# Altium footprint library TLE7181EMXUMA1.PcbLib: 3 footprints
Each footprint in its own frame and in the unit in brackets; x right, y up, seen from the top. Pads: shape width x height; smd on the part's side, far side on the other; paste and mask are expansions set on the pad; w line width, h text height; cw(c..) or ccw(c..) is an arc to the next point about the centre after c.
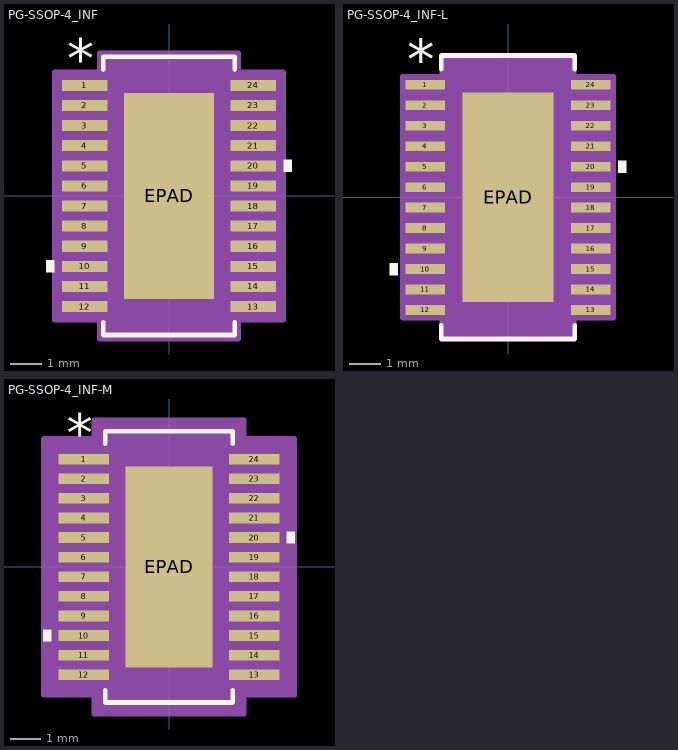
[diagram p0: the footprints below, top view; thin cyan lines are the x and y axes]

## PG-SSOP-4_INF [mil]
pads (25):
  rect 57.5x14 smd paste+0 mask+0: 1(-107.25,140.75) 2(-107.25,115.16) 3(-107.25,89.57) 4(-107.25,63.98) 5(-107.25,38.39) 6(-107.25,12.8) 7(-107.25,-12.8) 8(-107.25,-38.39) 9(-107.25,-63.98) 10(-107.25,-89.57) 11(-107.25,-115.16) 12(-107.25,-140.75) 13(107.25,-140.75) 14(107.25,-115.16) 15(107.25,-89.57) 16(107.25,-63.98) 17(107.25,-38.39) 18(107.25,-12.8) 19(107.25,12.8) 20(107.25,38.39) 21(107.25,63.98) 22(107.25,89.57) 23(107.25,115.16) 24(107.25,140.75)
  rect 114x262 smd paste-130.5 mask+0: EPAD(0,0)
Top Overlay:
  region: -146,-82.07 -156,-82.07 -156,-97.07 -146,-97.07
  region: 146,45.89 156,45.89 156,30.89 146,30.89
  lines w6: -83.5,-160.85 -83.5,-177 83.5,-177 83.5,-160.85 ; -83.5,160.85 -83.5,177 83.5,177 83.5,160.85
  text "*" at -129.75,149.75 h50
  text ".Designator" at -137.5,-25 h50
Top Paste:
  region: -3.94,127.06 -53.06,127.06 -53.06,82.54 -3.94,82.54
  region: -3.94,74.66 -53.06,74.66 -53.06,30.14 -3.94,30.14
  region: -3.94,22.26 -53.06,22.26 -53.06,-22.26 -3.94,-22.26
  region: -3.94,-30.14 -53.06,-30.14 -53.06,-74.66 -3.94,-74.66
  region: -3.94,-82.54 -53.06,-82.54 -53.06,-127.06 -3.94,-127.06
  region: 53.06,127.06 3.94,127.06 3.94,82.54 53.06,82.54
  region: 53.06,74.66 3.94,74.66 3.94,30.14 53.06,30.14
  region: 53.06,22.26 3.94,22.26 3.94,-22.26 53.06,-22.26
  region: 53.06,-30.14 3.94,-30.14 3.94,-74.66 53.06,-74.66
  region: 53.06,-82.54 3.94,-82.54 3.94,-127.06 53.06,-127.06
Mechanical 13:
  lines w1: -12,172 ccw(c0,172) 12,172 ; -122,-146.75 -122,-134.75 -78.5,-134.75 -78.5,-146.75 -122,-146.75 ; -122,-121.16 -122,-109.16 -78.5,-109.16 -78.5,-121.16 -122,-121.16 ; -122,-95.57 -122,-83.57 -78.5,-83.57 -78.5,-95.57 -122,-95.57 ; -122,-69.98 -122,-57.98 -78.5,-57.98 -78.5,-69.98 -122,-69.98 ; -122,-44.39 -122,-32.39 -78.5,-32.39 -78.5,-44.39 -122,-44.39 ; -122,-18.8 -122,-6.8 -78.5,-6.8 -78.5,-18.8 -122,-18.8 ; -122,6.8 -122,18.8 -78.5,18.8 -78.5,6.8 -122,6.8 ; -122,32.39 -122,44.39 -78.5,44.39 -78.5,32.39 -122,32.39 ; -122,57.98 -122,69.98 -78.5,69.98 -78.5,57.98 -122,57.98 ; -122,83.57 -122,95.57 -78.5,95.57 -78.5,83.57 -122,83.57 ; -122,109.16 -122,121.16 -78.5,121.16 -78.5,109.16 -122,109.16 ; -122,134.75 -122,146.75 -78.5,146.75 -78.5,134.75 -122,134.75 ; -78.5,-172 78.5,-172 78.5,172 -78.5,172 -78.5,-172 ; 78.5,-146.75 78.5,-134.75 122,-134.75 122,-146.75 78.5,-146.75 ; 78.5,-121.16 78.5,-109.16 122,-109.16 122,-121.16 78.5,-121.16 ; 78.5,-95.57 78.5,-83.57 122,-83.57 122,-95.57 78.5,-95.57 ; 78.5,-69.98 78.5,-57.98 122,-57.98 122,-69.98 78.5,-69.98 ; 78.5,-44.39 78.5,-32.39 122,-32.39 122,-44.39 78.5,-44.39 ; 78.5,-18.8 78.5,-6.8 122,-6.8 122,-18.8 78.5,-18.8 ; 78.5,6.8 78.5,18.8 122,18.8 122,6.8 78.5,6.8 ; 78.5,32.39 78.5,44.39 122,44.39 122,32.39 78.5,32.39 ; 78.5,57.98 78.5,69.98 122,69.98 122,57.98 78.5,57.98 ; 78.5,83.57 78.5,95.57 122,95.57 122,83.57 78.5,83.57 ; 78.5,109.16 78.5,121.16 122,121.16 122,109.16 78.5,109.16 ; 78.5,134.75 78.5,146.75 122,146.75 122,134.75 78.5,134.75
  text ".Designator" at -137.5,-25 h50
  text "*" at -76,119 h50
Mechanical 15:
  region: -88.5,-157.75 -146,-157.75 -146,157.75 -88.5,157.75 -88.5,182 88.5,182 88.5,157.75 146,157.75 146,-157.75 88.5,-157.75 88.5,-182 -88.5,-182
  lines w6: -146,-157.75 -146,157.75 -88.5,157.75 -88.5,182 88.5,182 88.5,157.75 146,157.75 146,-157.75 88.5,-157.75 88.5,-182 -88.5,-182 -88.5,-157.75 -146,-157.75
3D body "PG-SSOP-4_INF.step": height 67.09, standoff -2.01, extent -122.01,-172.01 122.01,172.01

## PG-SSOP-4_INF-L [mil]
pads (25):
  rect 49.5x12 smd paste+0 mask+0: 1(-103.25,140.75) 2(-103.25,115.16) 3(-103.25,89.57) 4(-103.25,63.98) 5(-103.25,38.39) 6(-103.25,12.8) 7(-103.25,-12.8) 8(-103.25,-38.39) 9(-103.25,-63.98) 10(-103.25,-89.57) 11(-103.25,-115.16) 12(-103.25,-140.75) 13(103.25,-140.75) 14(103.25,-115.16) 15(103.25,-89.57) 16(103.25,-63.98) 17(103.25,-38.39) 18(103.25,-12.8) 19(103.25,12.8) 20(103.25,38.39) 21(103.25,63.98) 22(103.25,89.57) 23(103.25,115.16) 24(103.25,140.75)
  rect 114x262 smd paste-130.5 mask+0: EPAD(0,0)
Top Overlay:
  region: -138,-82.07 -148,-82.07 -148,-97.07 -138,-97.07
  region: 138,45.89 148,45.89 148,30.89 138,30.89
  lines w6: -83.5,-159.85 -83.5,-177 83.5,-177 83.5,-159.85 ; -83.5,159.85 -83.5,177 83.5,177 83.5,159.85
  text "*" at -125.75,147.75 h50
  text ".Designator" at -137.5,-25 h50
Top Paste:
  region: -3.94,127.06 -53.06,127.06 -53.06,82.54 -3.94,82.54
  region: -3.94,74.66 -53.06,74.66 -53.06,30.14 -3.94,30.14
  region: -3.94,22.26 -53.06,22.26 -53.06,-22.26 -3.94,-22.26
  region: -3.94,-30.14 -53.06,-30.14 -53.06,-74.66 -3.94,-74.66
  region: -3.94,-82.54 -53.06,-82.54 -53.06,-127.06 -3.94,-127.06
  region: 53.06,127.06 3.94,127.06 3.94,82.54 53.06,82.54
  region: 53.06,74.66 3.94,74.66 3.94,30.14 53.06,30.14
  region: 53.06,22.26 3.94,22.26 3.94,-22.26 53.06,-22.26
  region: 53.06,-30.14 3.94,-30.14 3.94,-74.66 53.06,-74.66
  region: 53.06,-82.54 3.94,-82.54 3.94,-127.06 53.06,-127.06
Mechanical 13:
  lines w1: -12,172 ccw(c0,172) 12,172 ; -122,-146.75 -122,-134.75 -78.5,-134.75 -78.5,-146.75 -122,-146.75 ; -122,-121.16 -122,-109.16 -78.5,-109.16 -78.5,-121.16 -122,-121.16 ; -122,-95.57 -122,-83.57 -78.5,-83.57 -78.5,-95.57 -122,-95.57 ; -122,-69.98 -122,-57.98 -78.5,-57.98 -78.5,-69.98 -122,-69.98 ; -122,-44.39 -122,-32.39 -78.5,-32.39 -78.5,-44.39 -122,-44.39 ; -122,-18.8 -122,-6.8 -78.5,-6.8 -78.5,-18.8 -122,-18.8 ; -122,6.8 -122,18.8 -78.5,18.8 -78.5,6.8 -122,6.8 ; -122,32.39 -122,44.39 -78.5,44.39 -78.5,32.39 -122,32.39 ; -122,57.98 -122,69.98 -78.5,69.98 -78.5,57.98 -122,57.98 ; -122,83.57 -122,95.57 -78.5,95.57 -78.5,83.57 -122,83.57 ; -122,109.16 -122,121.16 -78.5,121.16 -78.5,109.16 -122,109.16 ; -122,134.75 -122,146.75 -78.5,146.75 -78.5,134.75 -122,134.75 ; -78.5,-172 78.5,-172 78.5,172 -78.5,172 -78.5,-172 ; 78.5,-146.75 78.5,-134.75 122,-134.75 122,-146.75 78.5,-146.75 ; 78.5,-121.16 78.5,-109.16 122,-109.16 122,-121.16 78.5,-121.16 ; 78.5,-95.57 78.5,-83.57 122,-83.57 122,-95.57 78.5,-95.57 ; 78.5,-69.98 78.5,-57.98 122,-57.98 122,-69.98 78.5,-69.98 ; 78.5,-44.39 78.5,-32.39 122,-32.39 122,-44.39 78.5,-44.39 ; 78.5,-18.8 78.5,-6.8 122,-6.8 122,-18.8 78.5,-18.8 ; 78.5,6.8 78.5,18.8 122,18.8 122,6.8 78.5,6.8 ; 78.5,32.39 78.5,44.39 122,44.39 122,32.39 78.5,32.39 ; 78.5,57.98 78.5,69.98 122,69.98 122,57.98 78.5,57.98 ; 78.5,83.57 78.5,95.57 122,95.57 122,83.57 78.5,83.57 ; 78.5,109.16 78.5,121.16 122,121.16 122,109.16 78.5,109.16 ; 78.5,134.75 78.5,146.75 122,146.75 122,134.75 78.5,134.75
  text ".Designator" at -137.5,-25 h50
  text "*" at -76,119 h50
Mechanical 15:
  region: -82.5,-150.75 -132,-150.75 -132,150.75 -82.5,150.75 -82.5,176 82.5,176 82.5,150.75 132,150.75 132,-150.75 82.5,-150.75 82.5,-176 -82.5,-176
  lines w6: -132,-150.75 -132,150.75 -82.5,150.75 -82.5,176 82.5,176 82.5,150.75 132,150.75 132,-150.75 82.5,-150.75 82.5,-176 -82.5,-176 -82.5,-150.75 -132,-150.75
3D body "PG-SSOP-4_INF.step": height 67.09, standoff -2.01, extent -122.01,-172.01 122.01,172.01

## PG-SSOP-4_INF-M [mil]
pads (25):
  rect 65.5x14 smd paste+0 mask+0: 1(-111.25,140.75) 2(-111.25,115.16) 3(-111.25,89.57) 4(-111.25,63.98) 5(-111.25,38.39) 6(-111.25,12.8) 7(-111.25,-12.8) 8(-111.25,-38.39) 9(-111.25,-63.98) 10(-111.25,-89.57) 11(-111.25,-115.16) 12(-111.25,-140.75) 13(111.25,-140.75) 14(111.25,-115.16) 15(111.25,-89.57) 16(111.25,-63.98) 17(111.25,-38.39) 18(111.25,-12.8) 19(111.25,12.8) 20(111.25,38.39) 21(111.25,63.98) 22(111.25,89.57) 23(111.25,115.16) 24(111.25,140.75)
  rect 114x262 smd paste-130.5 mask+0: EPAD(0,0)
Top Overlay:
  region: -154,-82.07 -164,-82.07 -164,-97.07 -154,-97.07
  region: 154,45.89 164,45.89 164,30.89 154,30.89
  lines w6: -83.5,-160.85 -83.5,-177 83.5,-177 83.5,-160.85 ; -83.5,160.85 -83.5,177 83.5,177 83.5,160.85
  text "*" at -133.75,149.75 h50
  text ".Designator" at -137.5,-25 h50
Top Paste:
  region: -3.94,127.06 -53.06,127.06 -53.06,82.54 -3.94,82.54
  region: -3.94,74.66 -53.06,74.66 -53.06,30.14 -3.94,30.14
  region: -3.94,22.26 -53.06,22.26 -53.06,-22.26 -3.94,-22.26
  region: -3.94,-30.14 -53.06,-30.14 -53.06,-74.66 -3.94,-74.66
  region: -3.94,-82.54 -53.06,-82.54 -53.06,-127.06 -3.94,-127.06
  region: 53.06,127.06 3.94,127.06 3.94,82.54 53.06,82.54
  region: 53.06,74.66 3.94,74.66 3.94,30.14 53.06,30.14
  region: 53.06,22.26 3.94,22.26 3.94,-22.26 53.06,-22.26
  region: 53.06,-30.14 3.94,-30.14 3.94,-74.66 53.06,-74.66
  region: 53.06,-82.54 3.94,-82.54 3.94,-127.06 53.06,-127.06
Mechanical 13:
  lines w1: -12,172 ccw(c0,172) 12,172 ; -122,-146.75 -122,-134.75 -78.5,-134.75 -78.5,-146.75 -122,-146.75 ; -122,-121.16 -122,-109.16 -78.5,-109.16 -78.5,-121.16 -122,-121.16 ; -122,-95.57 -122,-83.57 -78.5,-83.57 -78.5,-95.57 -122,-95.57 ; -122,-69.98 -122,-57.98 -78.5,-57.98 -78.5,-69.98 -122,-69.98 ; -122,-44.39 -122,-32.39 -78.5,-32.39 -78.5,-44.39 -122,-44.39 ; -122,-18.8 -122,-6.8 -78.5,-6.8 -78.5,-18.8 -122,-18.8 ; -122,6.8 -122,18.8 -78.5,18.8 -78.5,6.8 -122,6.8 ; -122,32.39 -122,44.39 -78.5,44.39 -78.5,32.39 -122,32.39 ; -122,57.98 -122,69.98 -78.5,69.98 -78.5,57.98 -122,57.98 ; -122,83.57 -122,95.57 -78.5,95.57 -78.5,83.57 -122,83.57 ; -122,109.16 -122,121.16 -78.5,121.16 -78.5,109.16 -122,109.16 ; -122,134.75 -122,146.75 -78.5,146.75 -78.5,134.75 -122,134.75 ; -78.5,-172 78.5,-172 78.5,172 -78.5,172 -78.5,-172 ; 78.5,-146.75 78.5,-134.75 122,-134.75 122,-146.75 78.5,-146.75 ; 78.5,-121.16 78.5,-109.16 122,-109.16 122,-121.16 78.5,-121.16 ; 78.5,-95.57 78.5,-83.57 122,-83.57 122,-95.57 78.5,-95.57 ; 78.5,-69.98 78.5,-57.98 122,-57.98 122,-69.98 78.5,-69.98 ; 78.5,-44.39 78.5,-32.39 122,-32.39 122,-44.39 78.5,-44.39 ; 78.5,-18.8 78.5,-6.8 122,-6.8 122,-18.8 78.5,-18.8 ; 78.5,6.8 78.5,18.8 122,18.8 122,6.8 78.5,6.8 ; 78.5,32.39 78.5,44.39 122,44.39 122,32.39 78.5,32.39 ; 78.5,57.98 78.5,69.98 122,69.98 122,57.98 78.5,57.98 ; 78.5,83.57 78.5,95.57 122,95.57 122,83.57 78.5,83.57 ; 78.5,109.16 78.5,121.16 122,121.16 122,109.16 78.5,109.16 ; 78.5,134.75 78.5,146.75 122,146.75 122,134.75 78.5,134.75
  text ".Designator" at -137.5,-25 h50
  text "*" at -76,119 h50
Mechanical 15:
  region: -98.5,-167.75 -164,-167.75 -164,167.75 -98.5,167.75 -98.5,192 98.5,192 98.5,167.75 164,167.75 164,-167.75 98.5,-167.75 98.5,-192 -98.5,-192
  lines w6: -164,-167.75 -164,167.75 -98.5,167.75 -98.5,192 98.5,192 98.5,167.75 164,167.75 164,-167.75 98.5,-167.75 98.5,-192 -98.5,-192 -98.5,-167.75 -164,-167.75
3D body "PG-SSOP-4_INF.step": height 67.09, standoff -2.01, extent -122.01,-172.01 122.01,172.01